# Altium schematic symbol library DIODE_LIB.SchLib: 1 symbol
Pins are listed as number, name and electrical type; pins without a type are passive.

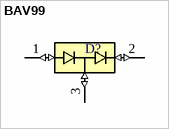
[diagram p0: symbol BAV99]

## BAV99
designator D?  (value not drawn)
Diode, Small Signal; 250 mA; 1.25 V _Max._; 300 mW; 430 K/W; 70 V; 6 nS _Max._; MF: ON Semiconductor; MP: BAV99; SnapEDA_Link: https://www.snapeda.com/parts/BAV99/ON%20Semiconductor/view-part/?ref=snap; Package: SOT-23-3 Vishay; Price: 0.07 USD; Availability: Unavailable; Value: *
footprint SOT23-3
pins: 1 A1 (io), 2 C2 (io), 3 COM (io)